# Altium schematic symbol library SCH_USB.SchLib: 7 symbols
Pins are listed as number, name and electrical type; pins without a type are passive.

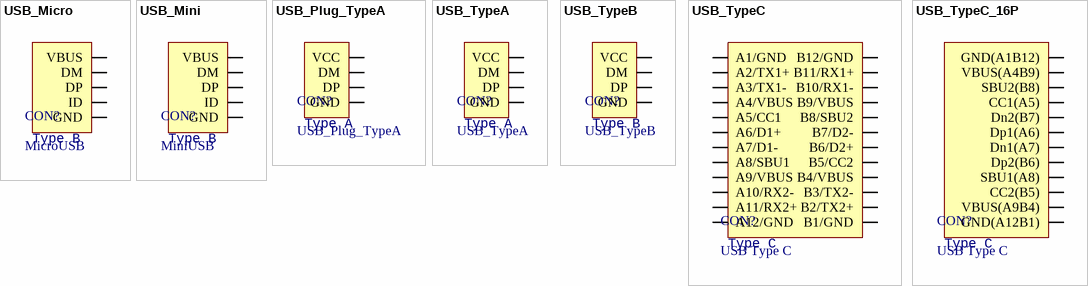
[diagram p0: symbols USB_Micro to USB_TypeC_16P]

## USB_Micro
designator CON?, comment MicroUSB  value Type B
USB; Type: *; Link: *
footprint USB_Micro-AB
footprint USB_Micro-B
footprint USB_Micro-A
pins: 0 SH, 1 VBUS, 2 DM, 3 DP, 4 ID, 5 GND

## USB_Mini
designator CON?, comment MiniUSB  value Type B
USB; Type: *
footprint USB_Mini-B
pins: 0 SH, 1 VBUS, 2 DM, 3 DP, 4 ID, 5 GND

## USB_Plug_TypeA
designator CON?  value Type A
USB; Type: *
footprint USB_Plug_TypeA_PCB
footprint USB_Plug_TypeA
pins: 0 SH, 1 VCC, 2 DM, 3 DP, 4 GND

## USB_TypeA
designator CON?  value Type A
USB; Type: *
footprint USB_TypeA
pins: 0 SH, 1 VCC, 2 DM, 3 DP, 4 GND

## USB_TypeB
designator CON?  value Type B
USB; Type: *
footprint USB_TypeB
pins: 0 SH, 1 VCC, 2 DM, 3 DP, 4 GND

## USB_TypeC
designator CON?, comment USB Type C  value Type C
USB; Type: *
footprint USB_TypeC_SMD_24P
pins: 0 SH, A1 A1/GND, A2 A2/TX1+, A3 A3/TX1-, A4 A4/VBUS, A5 A5/CC1, A6 A6/D1+, A7 A7/D1-, A8 A8/SBU1, A9 A9/VBUS, A10 A10/RX2-, A11 A11/RX2+, A12 A12/GND, B1 B1/GND, B2 B2/TX2+, B3 B3/TX2-, B4 B4/VBUS, B5 B5/CC2, B6 B6/D2+, B7 B7/D2-, B8 B8/SBU2, B9 B9/VBUS, B10 B10/RX1-, B11 B11/RX1+, B12 B12/GND

## USB_TypeC_16P
designator CON?, comment USB Type C  value Type C
USB; Type: *
footprint USB_TypeC_SMD_16P
pins: 0 SH, A1B12 GND(A1B12), A4B9 VBUS(A4B9), A5 CC1(A5), A6 Dp1(A6), A7  Dn1(A7), A8 SBU1(A8), A9B4 VBUS(A9B4), A12B1 GND(A12B1), B5 CC2(B5), B6  Dp2(B6), B7 Dn2(B7), B8 SBU2(B8)